# Altium schematic symbol library Schlib5.SchLib: 1 symbol
Pins are listed as number, name and electrical type; pins without a type are passive.

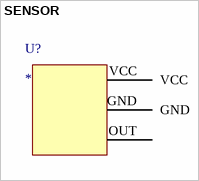
[diagram p0: symbol SENSOR]

## SENSOR
designator U?
pins: GND, OUT, VCC